# Altium footprint library Inductor.PcbLib: 3 footprints
Each footprint in its own frame and in the unit in brackets; x right, y up, seen from the top. Pads: shape width x height; smd on the part's side, far side on the other; paste and mask are expansions set on the pad; w line width, h text height; cw(c..) or ccw(c..) is an arc to the next point about the centre after c.
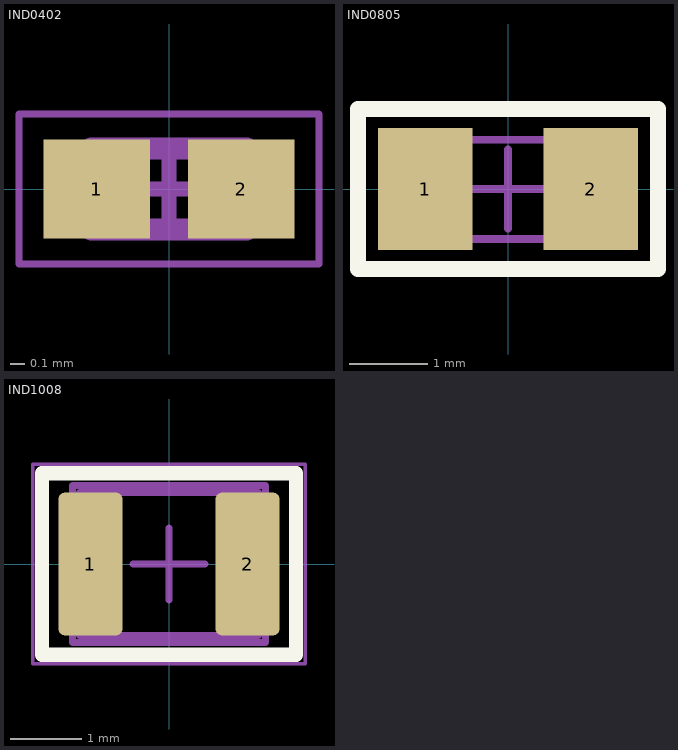
[diagram p0: the footprints below, top view; thin cyan lines are the x and y axes]

## IND0402 [mm]
pads (2):
  rect 0.72x0.67 smd: 1(-0.49,0) 2(0.49,0)
Mechanical 1:
  lines w0.15: -0.525,-0.275 -0.525,0.275 0.525,0.275 0.525,-0.275 -0.525,-0.275
  text ".Designator" at -0.378,-0.175 h0.5
Mechanical 13:
  lines w0.1: -0.525,-0.275 0.525,-0.275 0.525,0.275 -0.525,0.275 -0.525,-0.275
Mechanical 15:
  lines w0.05: -1.016,-0.508 1.016,-0.508 1.016,0.508 -1.016,0.508 -1.016,-0.508
  lines w0.1: -0.275,0 0.275,0 ; 0,-0.275 0,0.275
3D body "LQW15AN4N3B8ZD.STEP": height 0.6, standoff 0, extent -0.5,-0.3 0.5,0.3

## IND0805 [mm]
pads (2):
  rect 1.2x1.55 smd: 1(-1.05,0) 2(1.05,0)
Top Overlay:
  lines w0.2: -1.905,-1.016 -1.905,1.016 1.905,1.016 1.905,-1.016 -1.905,-1.016
Mechanical 1:
  lines w0.1: -1,-0.635 1.016,-0.635 1.016,0.625 -1,0.625 -1,-0.635
  text ".Designator" at -0.619,-0.272 h1
Mechanical 13:
  lines w0.1: -1.016,-0.635 -1.016,0.625 1.016,0.625 1.016,-0.635 -1.016,-0.635
Mechanical 15:
  lines w0.05: -1.905,-1 -1.905,1 1.905,1 1.905,-1 -1.905,-1
  lines w0.1: -0.5,0 0.5,0 ; 0,-0.5 0,0.5
3D body "0805-CAP.stp": height 1.4, standoff 0, extent -1,-0.625 1,0.625

## IND1008 [mm]
pads (2):
  rrect20% 0.9x2 smd mask+0.05: 1(-1.1,0) 2(1.1,0)
Top Overlay:
  lines w0.2: -1.778,-1.27 -1.778,1.27 1.778,1.27 1.778,-1.27 -1.778,-1.27
Mechanical 1:
  lines w0.1: -1.25,-1 -1.25,1 1.25,1 1.25,-1 -1.25,-1
  text ".Designator" at -0.127,-0.127 h1
Mechanical 13:
  lines w0.1: -1.35,-1.1 1.35,-1.1 1.35,1.1 -1.35,1.1 -1.35,-1.1
Mechanical 15:
  lines w0.05: -1.905,-1.397 1.905,-1.397 1.905,1.397 -1.905,1.397 -1.905,-1.397
  lines w0.1: -0.5,0 0.5,0 -0.5,0 ; 0,-0.5 0,0.5 0,-0.5
3D body: height 1, standoff 0, extent 0.75,-1.1 1.35,1.1
3D body: height 1, standoff 0, extent -1.35,-1.1 -0.75,1.1
3D body: height 1, standoff 0, extent -0.75,-1.1 0.75,1.1